# Altium schematic symbol library SCH - MECHANICAL - MOUNTING POINT.SCHLIB: 1 symbol
Pins are listed as number, name and electrical type; pins without a type are passive.

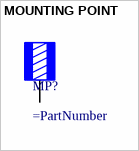
[diagram p0: symbol MOUNTING POINT]

## MOUNTING POINT
designator MP?
pins: 1